# EAGLE library part TEXAS_INSTRUMENTS-BUCK_CONVERTER-TPS62097RWKR (library Module_Regulators)
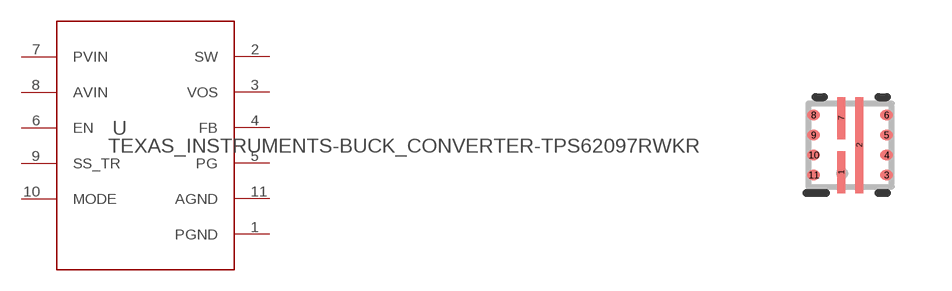
[diagram p3: symbol with the pads of TEXAS_INSTRUMENTS-BUCK_CONVERTER-TPS62097RWKR; footprint TEXAS_INSTRUMENTS-BUCK_CONVERTER-TPS62097RWKR]

Designator prefix U

## TEXAS_INSTRUMENTS-BUCK_CONVERTER-TPS62097RWKR (ALTERNATEPARTNUMBER: TPS62097RWKT; APPLICATION_BUILDNUMBER: *; COMPTYPE: IC; MANUFACTURER: Texas Instruments; MOUNTTYPE: SMT; PACKAGEREFERENCE: RWK0011B; PARTNUMBER: TPS62097RWKR; PIN_COUNT: 11; REFDES: RefDes; ROHS: Y; TYPE: TYPE; VALUE: Value)  [TEXAS_INSTRUMENTS-BUCK_CONVERTER-TPS62097RWKR]
1  PGND  pwr
2  SW  pwr
3  VOS  in
4  FB  in
5  PG  oc
6  EN  in
7  PVIN  pwr
8  AVIN  pwr
9  SS_TR  in
10  MODE  in
11  AGND  pwr

## Footprint TEXAS_INSTRUMENTS-BUCK_CONVERTER-TPS62097RWKR (pad centres in mm)
smd 0.2 x 1.05: 1 -0.225,-0.675; 7 -0.225,0.675
smd 0.2 x 2.4: 2 0.225,0
smd 0.325 x 0.25: 3 0.912,-0.75; 4 0.912,-0.25; 5 0.912,0.25; 6 0.912,0.75; 8 -0.912,0.75; 9 -0.912,0.25; 10 -0.912,-0.25; 11 -0.912,-0.75